# Altium schematic symbol library schematics.SchLib: 1 symbol
Pins are listed as number, name and electrical type; pins without a type are passive.

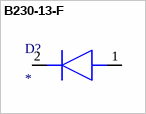
[diagram p0: symbol B230-13-F]

## B230-13-F
designator D?
Diode; Manufacturer_Name: Diodes Inc.; Manufacturer_Part_Number: B230-13-F; Datasheet Link: https://componentsearchengine.com/Datasheets/2/B230-13-F.pdf; Height: 2.5mm; Mouser Part Number: 621-B230-F; Mouser Price/Stock: https://www.mouser.co.uk/ProductDetail/Diodes-Incorporated/B230-13-F?qs=vC9GXGO01wXQLD6VVDHa%2Fw%3D%3D; Arrow Part Number: B230-13-F; Arrow Price/Stock: https://www.arrow.com/en/products/b230-13-f/diodes-incorporated
footprint DIONM5336X250N
pins: 1 A, 2 K